# Altium footprint library LED smd.PcbLib: 16 footprints
Each footprint in its own frame and in the unit in brackets; x right, y up, seen from the top. Pads: shape width x height; smd on the part's side, far side on the other; paste and mask are expansions set on the pad; w line width, h text height; cw(c..) or ccw(c..) is an arc to the next point about the centre after c.
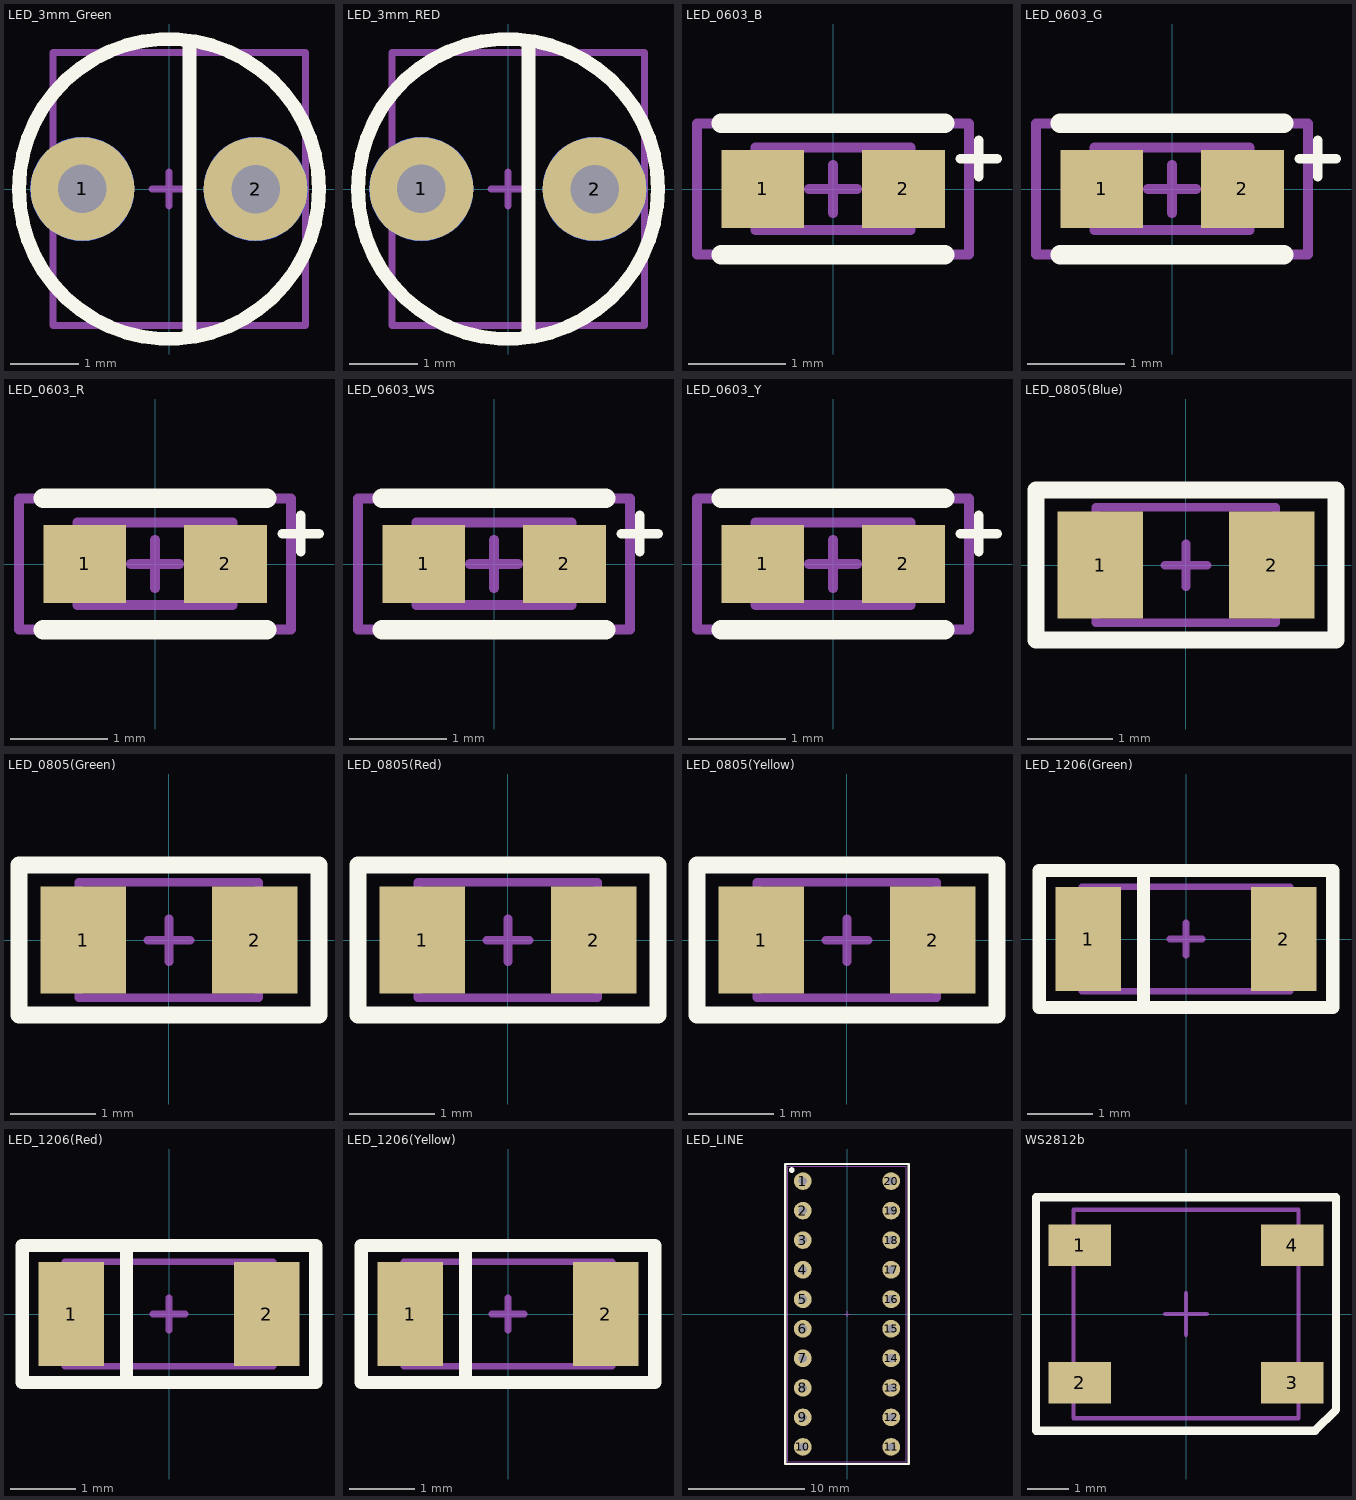
[diagram p0: the footprints below, top view; thin cyan lines are the x and y axes]

## LED_3mm_Green [mil]
pads (4):
  round 60 smd: 1(-50.02,0) 2(50.02,0)
  round 60 smd far side: 1(-50.02,0) 2(50.02,0)
via -50.02,0 diameter 50 hole 28
via 50.02,0 diameter 50 hole 28
Top Overlay:
  circle w7.87: c0,0 r86.61
  lines w7.87: 11.81,-82.68 11.81,82.68
Top Assy:
  lines w3.94: -66.93,-78.74 78.74,-78.74 78.74,78.74 -66.93,78.74 -66.93,-78.74
Border:
  circle w3.94: c0,0 r86.61
  lines w3.94: -9.84,0 9.84,0 ; 0,-9.84 0,9.84
3D body "User Library-LED-D3G.step": height 200.79, standoff -236.22, extent -65.61,-78.73 78.75,78.75

## LED_3mm_RED [mil]
pads (4):
  round 60 smd: 1(-50.02,0) 2(50.02,0)
  round 60 smd far side: 1(-50.02,0) 2(50.02,0)
via 50.02,0 diameter 50 hole 28
via -50.02,0 diameter 50 hole 28
Top Overlay:
  circle w7.87: c0,0 r86.61
  lines w7.87: 11.81,-82.68 11.81,82.68
Top Assy:
  lines w3.94: -66.93,-78.74 -66.93,78.74 78.74,78.74 78.74,-78.74 -66.93,-78.74
Border:
  circle w3.94: c0,0 r86.61
  lines w3.94: -9.84,0 9.84,0 ; 0,-9.84 0,9.84
3D body "User Library-LED-D3R.step": height 200.79, standoff -236.22, extent -65.61,-78.61 78.75,78.62

## LED_0603_B [mm]
pads (2):
  rect 0.85x0.8 smd: 1(-0.725,0) 2(0.725,0)
Top Overlay:
  lines w0.1: 1.313,0.313 1.687,0.313 ; 1.5,0.125 1.5,0.5
  lines w0.2: -1.15,-0.675 1.15,-0.675 ; -1.15,0.675 1.15,0.675
Top Assy:
  lines w0.1: -0.8,-0.422 0.8,-0.422 0.8,0.428 -0.8,0.428 -0.8,-0.422
Border:
  lines w0.1: -0.25,0 0.25,0 ; 0,-0.25 0,0.25 ; -1.4,-0.675 1.4,-0.675 1.4,0.675 -1.4,0.675 -1.4,-0.675
3D body "User Library-LED_0603_B.STEP": height 0.6, standoff 0, extent -0.8,-0.4 0.8,0.4

## LED_0603_G [mm]
pads (2):
  rect 0.85x0.8 smd: 1(-0.725,0) 2(0.725,0)
Top Overlay:
  lines w0.1: 1.313,0.313 1.687,0.313 ; 1.5,0.125 1.5,0.5
  lines w0.2: -1.15,-0.675 1.15,-0.675 ; -1.15,0.675 1.15,0.675
Top Assy:
  lines w0.1: -0.8,-0.422 0.8,-0.422 0.8,0.428 -0.8,0.428 -0.8,-0.422
Border:
  lines w0.1: -0.25,0 0.25,0 ; 0,-0.25 0,0.25 ; -1.4,-0.675 1.4,-0.675 1.4,0.675 -1.4,0.675 -1.4,-0.675
3D body "User Library-LED_0603_G.STEP": height 0.6, standoff 0, extent -0.8,-0.4 0.8,0.4

## LED_0603_R [mm]
pads (2):
  rect 0.85x0.8 smd: 1(-0.725,0) 2(0.725,0)
Top Overlay:
  lines w0.1: 1.313,0.313 1.687,0.313 ; 1.5,0.125 1.5,0.5
  lines w0.2: -1.15,-0.675 1.15,-0.675 ; -1.15,0.675 1.15,0.675
Top Assy:
  lines w0.1: -0.8,-0.422 -0.8,0.428 0.8,0.428 0.8,-0.422 -0.8,-0.422
Border:
  lines w0.1: -0.25,0 0.25,0 ; 0,-0.25 0,0.25 ; -1.4,-0.675 -1.4,0.675 1.4,0.675 1.4,-0.675 -1.4,-0.675
3D body "User Library-LED_0603_R.STEP": height 0.6, standoff 0, extent -0.8,-0.4 0.8,0.4

## LED_0603_WS [mm]
pads (2):
  rect 0.85x0.8 smd: 1(-0.725,0) 2(0.725,0)
Top Overlay:
  lines w0.1: 1.313,0.313 1.687,0.313 ; 1.5,0.125 1.5,0.5
  lines w0.2: -1.15,-0.675 1.15,-0.675 ; -1.15,0.675 1.15,0.675
Top Assy:
  lines w0.1: -0.8,-0.422 0.8,-0.422 0.8,0.428 -0.8,0.428 -0.8,-0.422
Border:
  lines w0.1: -0.25,0 0.25,0 ; 0,-0.25 0,0.25 ; -1.4,-0.675 1.4,-0.675 1.4,0.675 -1.4,0.675 -1.4,-0.675
3D body "User Library-LED_0603_WS.STEP": height 0.6, standoff 0, extent -0.8,-0.4 0.8,0.4

## LED_0603_Y [mm]
pads (2):
  rect 0.85x0.8 smd: 1(-0.725,0) 2(0.725,0)
Top Overlay:
  lines w0.1: 1.313,0.313 1.687,0.313 ; 1.5,0.125 1.5,0.5
  lines w0.2: -1.15,-0.675 1.15,-0.675 ; -1.15,0.675 1.15,0.675
Top Assy:
  lines w0.1: -0.8,-0.422 0.8,-0.422 0.8,0.428 -0.8,0.428 -0.8,-0.422
Border:
  lines w0.1: -0.25,0 0.25,0 ; 0,-0.25 0,0.25 ; -1.4,-0.675 1.4,-0.675 1.4,0.675 -1.4,0.675 -1.4,-0.675
3D body "User Library-LED_0603_Y.STEP": height 0.6, standoff 0, extent -0.8,-0.4 0.8,0.4

## LED_0805(Blue) [mm]
pads (2):
  rect 1x1.25 smd: 1(-0.999,0) 2(1.001,0)
Top Overlay:
  lines w0.2: -1.749,-0.875 -1.749,0.875 1.751,0.875 1.751,-0.875 -1.749,-0.875
Top Assy:
  lines w0.1: -1.05,-0.675 -1.05,0.675 1.05,0.675 1.05,-0.675 -1.05,-0.675
Border:
  lines w0.1: -0.249,0 0.251,0 ; 0.001,-0.25 0.001,0.25 ; -1.749,-0.85 -1.749,0.9 1.751,0.9 1.751,-0.85 -1.749,-0.85
3D body "User Library-LED0805(Синий).step": height 0.8, standoff 0, extent -1.05,-0.675 1.05,0.675

## LED_0805(Green) [mm]
pads (2):
  rect 1x1.25 smd: 1(-0.999,0) 2(1.001,0)
Top Overlay:
  lines w0.2: -1.749,-0.875 -1.749,0.875 1.751,0.875 1.751,-0.875 -1.749,-0.875
Top Assy:
  lines w0.1: -1.05,-0.675 -1.05,0.675 1.05,0.675 1.05,-0.675 -1.05,-0.675
Border:
  lines w0.1: -0.249,0 0.251,0 ; 0.001,-0.25 0.001,0.25 ; -1.749,-0.85 -1.749,0.9 1.751,0.9 1.751,-0.85 -1.749,-0.85
3D body "User Library-LED0805(Зеленый).step": height 0.8, standoff 0, extent -1.05,-0.675 1.05,0.675

## LED_0805(Red) [mm]
pads (2):
  rect 1x1.25 smd: 1(-0.999,0) 2(1.001,0)
Top Overlay:
  lines w0.2: -1.749,-0.875 1.751,-0.875 1.751,0.875 -1.749,0.875 -1.749,-0.875
Top Assy:
  lines w0.1: -1.05,-0.675 1.05,-0.675 1.05,0.675 -1.05,0.675 -1.05,-0.675
Border:
  lines w0.1: -0.249,0 0.251,0 ; 0.001,-0.25 0.001,0.25 ; -1.749,-0.85 1.751,-0.85 1.751,0.9 -1.749,0.9 -1.749,-0.85
3D body "User Library-LED0805(Красный).step": height 0.8, standoff 0, extent -1.05,-0.675 1.05,0.675

## LED_0805(Yellow) [mm]
pads (2):
  rect 1x1.25 smd: 1(-0.999,0) 2(1.001,0)
Top Overlay:
  lines w0.2: -1.749,-0.875 -1.749,0.875 1.751,0.875 1.751,-0.875 -1.749,-0.875
Top Assy:
  lines w0.1: -1.05,-0.675 -1.05,0.675 1.05,0.675 1.05,-0.675 -1.05,-0.675
Border:
  lines w0.1: -0.249,0 0.251,0 ; 0.001,-0.25 0.001,0.25 ; -1.749,-0.85 -1.749,0.9 1.751,0.9 1.751,-0.85 -1.749,-0.85
3D body "User Library-LED0805(Желтый).step": height 0.8, standoff 0, extent -1.05,-0.675 1.05,0.675

## LED_1206(Green) [mm]
pads (2):
  rect 1x1.6 smd: 1(-1.5,0) 2(1.5,0)
Top Overlay:
  lines w0.2: -0.65,-1.05 -0.65,1.05 ; -2.25,-1.05 -2.25,1.05 2.25,1.05 2.25,-1.05 -2.25,-1.05
Top Assy:
  lines w0.1: -1.6,-0.8 1.6,-0.8 1.6,0.8 -1.6,0.8 -1.6,-0.8
Border:
  lines w0.1: -0.25,0 0.25,0 ; 0,-0.25 0,0.25 ; -2.25,-1.05 -2.25,1.05 2.25,1.05 2.25,-1.05 -2.25,-1.05
3D body "User Library-LED 1206 BLUE.step": height 1.1, standoff 0, extent -1.6,-0.8 1.6,0.8

## LED_1206(Red) [mm]
pads (2):
  rect 1x1.6 smd: 1(-1.5,0) 2(1.5,0)
Top Overlay:
  lines w0.2: -0.65,-1.05 -0.65,1.05 ; -2.25,-1.05 -2.25,1.05 2.25,1.05 2.25,-1.05 -2.25,-1.05
Top Assy:
  lines w0.1: -1.6,-0.8 1.6,-0.8 1.6,0.8 -1.6,0.8 -1.6,-0.8
Border:
  lines w0.1: -0.25,0 0.25,0 ; 0,-0.25 0,0.25 ; -2.25,-1.05 -2.25,1.05 2.25,1.05 2.25,-1.05 -2.25,-1.05
3D body "User Library-LED 1206 RED.step": height 1.1, standoff 0, extent -1.6,-0.8 1.6,0.8

## LED_1206(Yellow) [mm]
pads (2):
  rect 1x1.6 smd: 1(-1.5,0) 2(1.5,0)
Top Overlay:
  lines w0.2: -0.65,-1.05 -0.65,1.05 ; -2.25,-1.05 2.25,-1.05 2.25,1.05 -2.25,1.05 -2.25,-1.05
Top Assy:
  lines w0.1: -1.6,-0.8 -1.6,0.8 1.6,0.8 1.6,-0.8 -1.6,-0.8
Border:
  lines w0.1: -0.25,0 0.25,0 ; 0,-0.25 0,0.25 ; -2.25,-1.05 2.25,-1.05 2.25,1.05 -2.25,1.05 -2.25,-1.05
3D body "User Library-LED 1206 Yellow.step": height 1.1, standoff 0, extent -1.6,-0.8 1.6,0.8

## LED_LINE [mm]
pads (21):
  round 1.524 hole 0.7: 1(-3.8,11.43) 2(-3.8,8.89) 3(-3.8,6.35) 4(-3.8,3.81) 5(-3.8,1.27) 6(-3.8,-1.27) 7(-3.8,-3.81) 8(-3.8,-6.35) 9(-3.8,-8.89) 10(-3.8,-11.43) 11(3.8,-11.43) 12(3.8,-8.89) 13(3.8,-6.35) 14(3.8,-3.81) 15(3.8,-1.27) 16(3.8,1.27) 17(3.8,3.81) 18(3.8,6.35) 19(3.8,8.89) 20(3.8,11.43)
  round 0.5 on Top Overlay: ""(-4.75,12.375)
Top Overlay:
  lines w0.2: -5.3,-12.9 5.3,-12.9 5.3,12.9 -5.3,12.9 -5.3,-12.9
Top Assy:
  lines w0.1: -5.1,-12.7 5.1,-12.7 5.1,12.7 -5.1,12.7 -5.1,-12.7
Border:
  lines w0.1: -0.25,0 0.25,0 ; 0,-0.25 0,0.25 ; -5.3,-12.9 5.3,-12.9 5.3,12.9 -5.3,12.9 -5.3,-12.9
3D body "User Library-DC-10EWA.step": height 8, standoff -3, extent -5.08,-12.7 5.08,12.7

## WS2812b [mm]
pads (4):
  rect 1.5x1 smd: 1(-2.55,1.65) 2(-2.55,-1.65) 3(2.55,-1.65) 4(2.55,1.65)
Top Overlay:
  lines w0.2: -3.6,-2.8 -3.6,2.8 3.6,2.8 3.6,-2.3 3.1,-2.8 -3.6,-2.8
Top Assy:
  lines w0.1: -2.7,-2.5 -2.7,2.5 2.7,2.5 2.7,-2.5 -2.7,-2.5
Border:
  lines w0.1: -0.5,0 0.5,0 ; 0,-0.5 0,0.5 ; -3.6,-2.8 3.1,-2.8 3.6,-2.3 3.6,2.8 -3.6,2.8 -3.6,-2.8
3D body "User Library-ws2812B-1.step": height 1.55, standoff -0.02, extent -2.7,-2.5 2.7,2.5